# EAGLE library part P89LPC915 (library MakeItLabs)
The P89LPC915/916/917 are single-chip microcontrollers,executes instructions in two clocks, 2 kB byte, 256-byte RAM, UART, 8-bit A/D
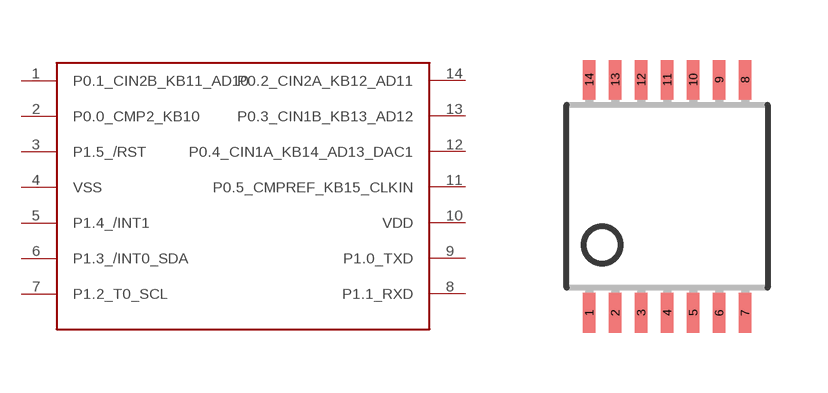
[diagram p1: symbol with the pads of TSSOP14; footprint TSSOP14]

Designator prefix -

## P89LPC915  [TSSOP14]
1  P0.1_CIN2B_KB11_AD10
2  P0.0_CMP2_KB10
3  P1.5_/RST
4  VSS  pwr
5  P1.4_/INT1
6  P1.3_/INT0_SDA
7  P1.2_T0_SCL
8  P1.1_RXD
9  P1.0_TXD
10  VDD  pwr
11  P0.5_CMPREF_KB15_CLKIN
12  P0.4_CIN1A_KB14_AD13_DAC1
13  P0.3_CIN1B_KB13_AD12
14  P0.2_CIN2A_KB12_AD11

## Footprint TSSOP14 (pad centres in mm)
Thin Shrink Small Outline Plastic 14
smd 0.305 x 0.991: 1 -1.95,-2.918; 2 -1.3,-2.918; 3 -0.65,-2.918; 4 0,-2.918; 5 0.65,-2.918; 6 1.3,-2.918; 7 1.95,-2.918; 8 1.95,2.918; 9 1.3,2.918; 10 0.65,2.918; 11 0,2.918; 12 -0.65,2.918; 13 -1.3,2.918; 14 -1.95,2.918